# EAGLE library part 832-10-012-10-005000 (library 832-10-012-10-005000)
Check prices <https://pricing.snapeda.com/parts/2355104-4/TE%20Connectivity/view-part?ref=eda>
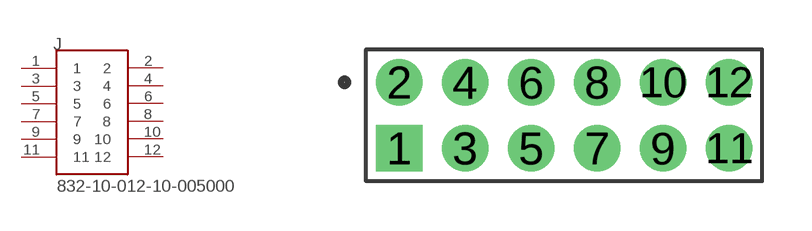
[diagram p0: symbol with the pads of 832-10-012-10-005000; footprint 832-10-012-10-005000]

Designator prefix J

## 832-10-012-10-005000 (AVAILABILITY: In Stock; COMMENT: 2355104-4; DESCRIPTION: Pin 4P,2MM,BRK HDR,SRVT,2.8,0.1AU,TB W/CAP 4 POS; MF: TE Connectivity; MP: 2355104-4; PACKAGE: None; PRICE: None; PURCHASE-URL: https://pricing.snapeda.com/search/part/2355104-4/?ref=eda)  [832-10-012-10-005000]
1  1  pas
2  2  pas
3  3  pas
4  4  pas
5  5  pas
6  6  pas
7  7  pas
8  8  pas
9  9  pas
10  10  pas
11  11  pas
12  12  pas

## Footprint 832-10-012-10-005000 (pad centres in mm)
drill 0.9 pad 1.25 square: 1 0,-2
drill 0.9 pad 1.25: 2 0,0; 3 2,-2; 4 2,0; 5 4,-2; 6 4,0; 7 6,-2; 8 6,0; 9 8,-2; 10 8,0; 11 10,-2; 12 10,0